# EAGLE library part RCM3400 (library RCM3400_Module)
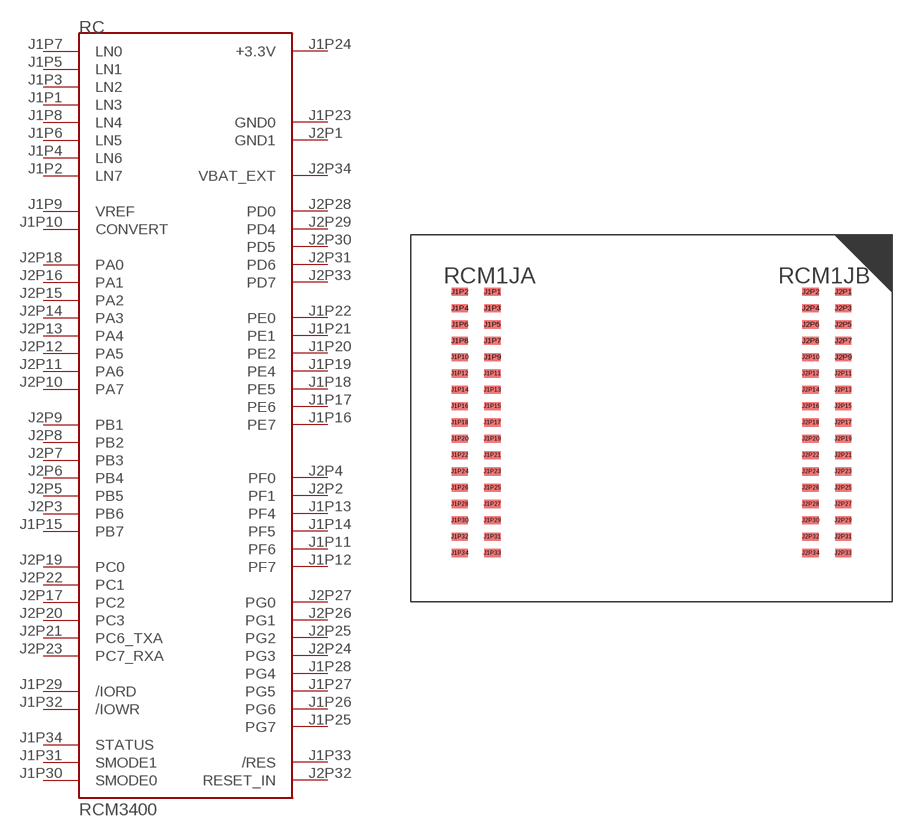
[diagram p0: symbol with the pads of RCM3400; footprint RCM3400]

Designator prefix RC

## RCM3400  [RCM3400]
J1P1  LN3
J1P2  LN7
J1P3  LN2
J1P4  LN6
J1P5  LN1
J1P6  LN5
J1P7  LN0
J1P8  LN4
J1P9  VREF
J1P10  CONVERT
J1P11  PF6
J1P12  PF7
J1P13  PF4
J1P14  PF5
J1P15  PB7
J1P16  PE7
J1P17  PE6
J1P18  PE5
J1P19  PE4
J1P20  PE2
J1P21  PE1
J1P22  PE0
J1P23  GND0  pwr
J1P24  +3.3V  pwr
J1P25  PG7
J1P26  PG6
J1P27  PG5
J1P28  PG4
J1P29  /IORD
J1P30  SMODE0
J1P31  SMODE1
J1P32  /IOWR
J1P33  /RES
J1P34  STATUS
J2P1  GND1  pwr
J2P2  PF1
J2P3  PB6
J2P4  PF0
J2P5  PB5
J2P6  PB4
J2P7  PB3
J2P8  PB2
J2P9  PB1
J2P10  PA7
J2P11  PA6
J2P12  PA5
J2P13  PA4
J2P14  PA3
J2P15  PA2
J2P16  PA1
J2P17  PC2
J2P18  PA0
J2P19  PC0
J2P20  PC3
J2P21  PC6_TXA
J2P22  PC1
J2P23  PC7_RXA
J2P24  PG3
J2P25  PG2
J2P26  PG1
J2P27  PG0
J2P28  PD0
J2P29  PD4
J2P30  PD5
J2P31  PD6
J2P32  RESET_IN
J2P33  PD7
J2P34  VBAT_EXT

## Footprint RCM3400 (pad centres in mm)
RCM3400 Rabbit module
smd 1.27 x 0.635: J1P1 -11.43,8.89; J1P2 -13.97,8.89; J1P3 -11.43,7.62; J1P4 -13.97,7.62; J1P5 -11.43,6.35; J1P6 -13.97,6.35; J1P7 -11.43,5.08; J1P8 -13.97,5.08; J1P9 -11.43,3.81; J1P10 -13.97,3.81; J1P11 -11.43,2.54; J1P12 -13.97,2.54; J1P13 -11.43,1.27; J1P14 -13.97,1.27; J1P15 -11.43,0; J1P16 -13.97,0; J1P17 -11.43,-1.27; J1P18 -13.97,-1.27; J1P19 -11.43,-2.54; J1P20 -13.97,-2.54; J1P21 -11.43,-3.81; J1P22 -13.97,-3.81; J1P23 -11.43,-5.08; J1P24 -13.97,-5.08; J1P25 -11.43,-6.35; J1P26 -13.97,-6.35; J1P27 -11.43,-7.62; J1P28 -13.97,-7.62; J1P29 -11.43,-8.89; J1P30 -13.97,-8.89; J1P31 -11.43,-10.16; J1P32 -13.97,-10.16; J1P33 -11.43,-11.43; J1P34 -13.97,-11.43; J2P1 15.875,8.89; J2P2 13.335,8.89; J2P3 15.875,7.62; J2P4 13.335,7.62; J2P5 15.875,6.35; J2P6 13.335,6.35; J2P7 15.875,5.08; J2P8 13.335,5.08; J2P9 15.875,3.81; J2P10 13.335,3.81; J2P11 15.875,2.54; J2P12 13.335,2.54; J2P13 15.875,1.27; J2P14 13.335,1.27; J2P15 15.875,0; J2P16 13.335,0; J2P17 15.875,-1.27; J2P18 13.335,-1.27; J2P19 15.875,-2.54; J2P20 13.335,-2.54; J2P21 15.875,-3.81; J2P22 13.335,-3.81; J2P23 15.875,-5.08; J2P24 13.335,-5.08; J2P25 15.875,-6.35; J2P26 13.335,-6.35; J2P27 15.875,-7.62; J2P28 13.335,-7.62; J2P29 15.875,-8.89; J2P30 13.335,-8.89; J2P31 15.875,-10.16; J2P32 13.335,-10.16; J2P33 15.875,-11.43; J2P34 13.335,-11.43